# EAGLE library part PIC16F8 (library omcPIC)
PIC16F87/88 - Enhanced Flash Microcontrollers with nanoWatt Technology Low-Power Features: Power-Managed modes: Primary Run: RC oscillator, 76 μA, 1 MHz, 2V RC_RUN: 7 μA, 31.25 kHz, 2V SEC_RUN: 9 μA, 32 kHz, 2V Sleep: 0.1 μA, 2V Timer1 Oscillator: 1.8 μA, 32 kHz, 2V Watchdog Timer: 2.2 μA, 2V Two-Speed Oscillator Start-up Oscillators: Three Crystal modes: LP, XT, HS: up to 20 MHz Two External RC modes One External Clock mode: ECIO: up to 20 MHz Internal oscillator block: 8 user selectable frequencies: 31 kHz, 125 kHz, 250 kHz, 500 kHz, 1 MHz, 2 MHz, 4 MHz, 8 MHz Peripheral Features: Capture, Compare, PWM (CCP) module: Capture is 16-bit, max. resolution is 12.5 ns Compare is 16-bit, max. resolution is 200 ns PWM max. resolution is 10-bit 10-bit, 7-channel Analog-to-Digital Converter Synchronous Serial Port (SSP) with SPI™ (Master/Slave) and I2C™ (Slave) Addressable Universal Synchronous Asynchronous Receiver Transmitter (AUSART/SCI) with 9-bit address detection: RS-232 operation using internal oscillator (no external crystal required) Dual Analog Comparator module: Programmable on-chip voltage reference Programmable input multiplexing from device inputs and internal voltage reference Comparator outputs are externally accessible Datasheet: Microchip Datasheet <http://ww1.microchip.com/downloads/en/DeviceDoc/30487D.pdf> Reichelt <https://cdn-reichelt.de/documents/datenblatt/A300/PIC16F87_88%23MIC.pdf>
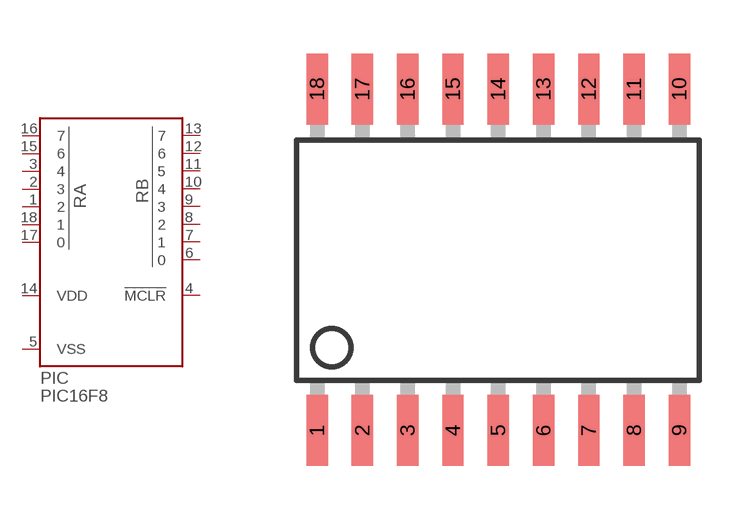
[diagram p4: symbol with the pads of SOIC18W; footprint SOIC18W]

Designator prefix PIC

## PIC16F88-I/SO (DIST#REICHELT#: PIC 16F88-I/SO; VALUE: PIC16F88)  [SOIC18W]
1  2
2  3
3  4
4  !MCLR  in
5  VSS  pwr
6  0
7  1
8  2
9  3
10  4
11  5
12  6
13  7
14  VDD  pwr
15  6
16  7
17  0
18  1

## Footprint SOIC18W (pad centres in mm)
SOIC18W SMD 300-mil 11.5mm×10.3mm SOIC18W, P171 <http://ww1.microchip.com/downloads/en/PackagingSpec/00000049BN%20.pdf>
smd 0.6 x 2: 1 1.27,1.245; 2 2.54,1.245; 3 3.81,1.245; 4 5.08,1.245; 5 6.35,1.245; 6 7.62,1.245; 7 8.89,1.245; 8 10.16,1.245; 9 11.43,1.245; 10 11.43,10.82; 11 10.16,10.82; 12 8.89,10.82; 13 7.62,10.82; 14 6.35,10.82; 15 5.08,10.82; 16 3.81,10.82; 17 2.54,10.82; 18 1.27,10.82